# EAGLE library part 8038 (library ic)
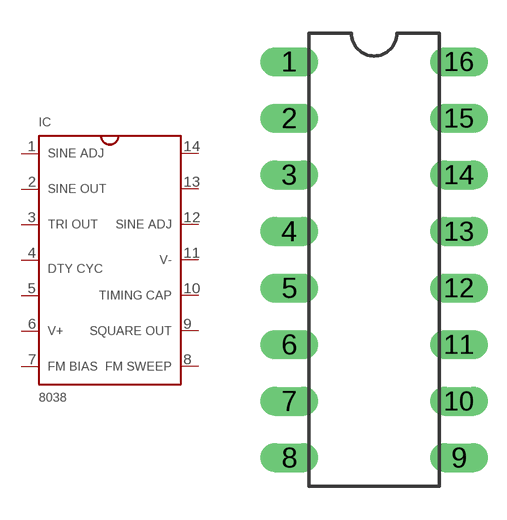
[diagram p37: symbol with the pads of DIL16; footprint DIL16]

Designator prefix IC

## 8038  [DIL16]
1  SINE_ADJ
2  SINE_OUT
3  TRI_OUT
4  DUTY_1
5  DUTY_2
6  V+
7  FM_BIAS
8  FM_SWEEP
9  SQR_OUT
10  TIMING_CAP
11  V-
12  SINE_ADJ_2
13  NC_1
14  NC_2

## Footprint DIL16 (pad centres in mm)
drill 0.8 long: 1 -3.81,8.89; 2 -3.81,6.35; 3 -3.81,3.81; 4 -3.81,1.27; 5 -3.81,-1.27; 6 -3.81,-3.81; 7 -3.81,-6.35; 8 -3.81,-8.89; 9 3.81,-8.89; 10 3.81,-6.35; 11 3.81,-3.81; 12 3.81,-1.27; 13 3.81,1.27; 14 3.81,3.81; 15 3.81,6.35; 16 3.81,8.89